# Altium schematic symbol library RF.Modulators.SchLib: 2 symbols
Pins are listed as number, name and electrical type; pins without a type are passive.

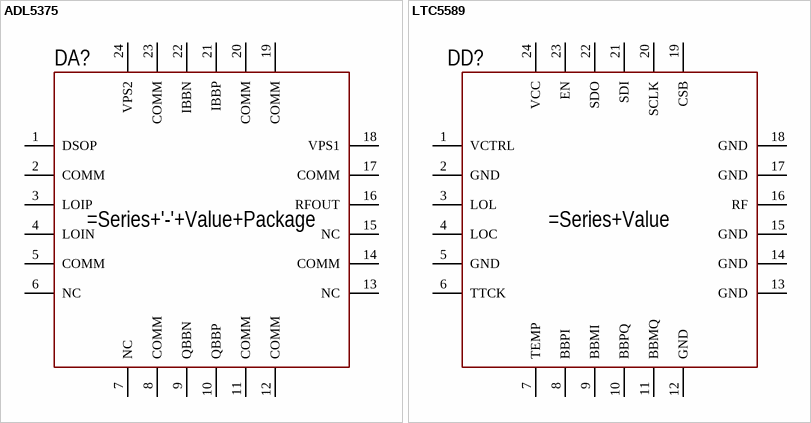
[diagram p0: symbols ADL5375 to LTC5589]

## ADL5375
designator DA?
400 MHz to 6 GHz Broadband Quadrature Modulator
footprint QFN-24_4.00x4.00mm_EP_2.50x2.50mm (CP-24-7) (QFN, 24-Leads, Body 4.00x4.00mm, Pitch 0.50mm, Thermal Pad 2.50x2.50mm, IPC Medium Density)
pins: 1 DSOP, 2 COMM, 3 LOIP, 4 LOIN, 5 COMM, 6 NC, 7 NC, 8 COMM, 9 QBBN, 10 QBBP, 11 COMM, 12 COMM, 13 NC, 14 COMM, 15 NC, 16 RFOUT, 17 COMM, 18 VPS1, 19 COMM, 20 COMM, 21 IBBP, 22 IBBN, 23 COMM, 24 VPS2, PAD GND hidden to GND

## LTC5589
designator DD?
700MHz to 6GHz Low Power Direct Quadrature Modulator
footprint QFN-24_4.00x4.00mm_EP_2.45x2.45mm (QFN, 24-Leads, Body 4.00x4.00mm, Pitch 0.50mm, Thermal Pad 2.45x2.45mm, IPC Medium Density)
pins: 1 VCTRL, 2 GND, 3 LOL, 4 LOC, 5 GND, 6 TTCK, 7 TEMP, 8 BBPI, 9 BBMI, 10 BBPQ, 11 BBMQ, 12 GND, 13 GND, 14 GND, 15 GND, 16 RF, 17 GND, 18 GND, 19 CSB, 20 SCLK, 21 SDI, 22 SDO, 23 EN, 24 VCC, PAD GND hidden to GND